# EAGLE library part CP2108 (library Interface)
CP2108 SINGLE-CHIP USB-TO-QUAD-UART BRIDGE. Four independent UART interfaces Integrated clock; no external crystal required ntegrated programmable EEPROM for storing customizable product information On-chip power-on reset circuit On-chip voltage regulator: 3.3 V output Datasheet <http://www.silabs.com/Support%20Documents/TechnicalDocs/CP2108.pdf>
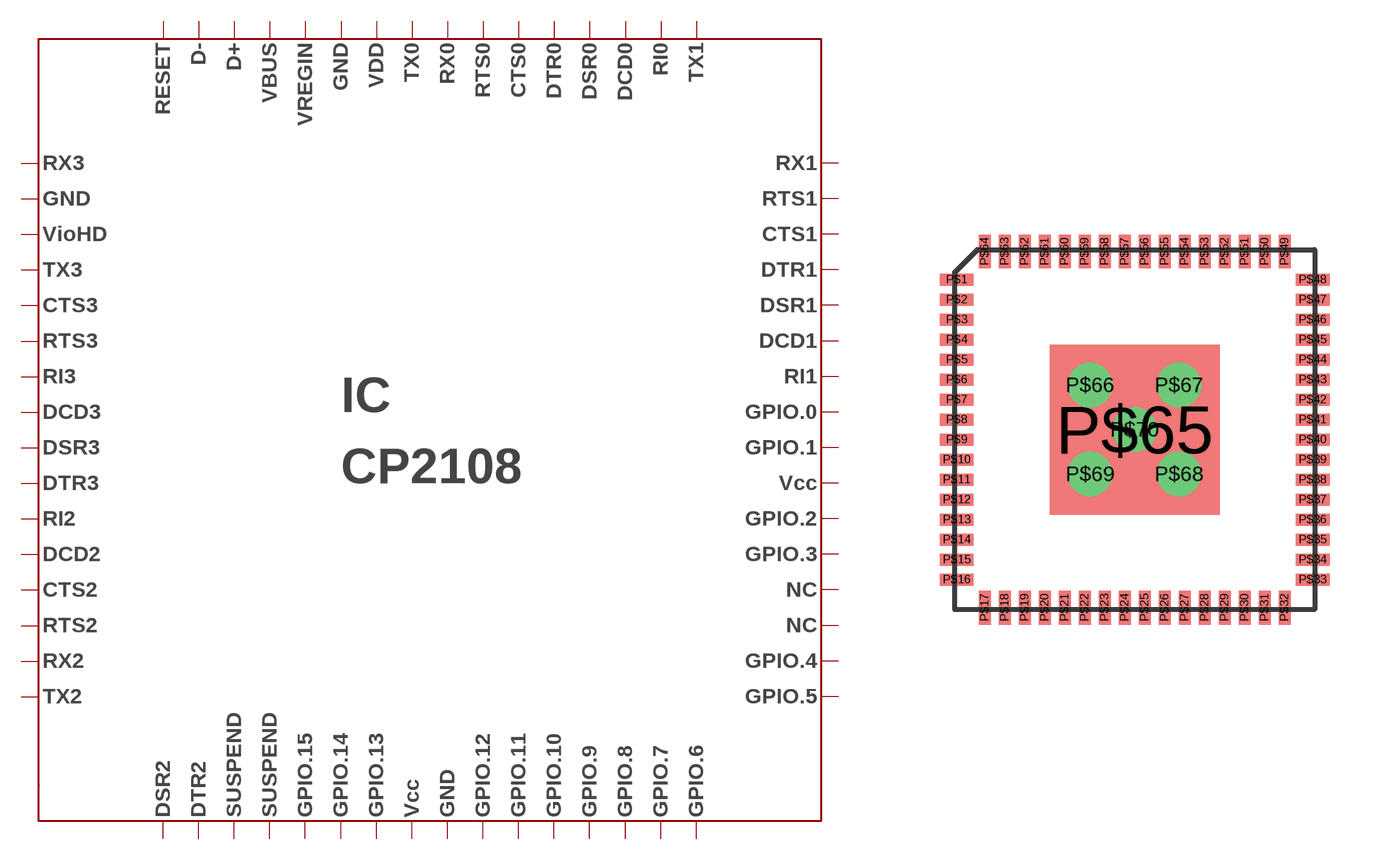
[diagram p8: symbol with the pads of QFN64_9X9; footprint QFN64_9X9]

Designator prefix IC

## CP2108  [QFN64_9X9]
P$1  P$1
P$2  P$2
P$3  P$3
P$4  P$4
P$5  P$5
P$6  P$6
P$7  P$7
P$8  P$8
P$9  P$9
P$10  P$10
P$11  P$11
P$12  P$12
P$13  P$13
P$14  P$14
P$15  P$15
P$16  P$16
P$17  P$17
P$18  P$18
P$19  P$19
P$20  P$20
P$21  P$21
P$22  P$22
P$23  P$23
P$24  P$24
P$25  P$25
P$26  P$26
P$27  P$27
P$28  P$28
P$29  P$29
P$30  P$30
P$31  P$31
P$32  P$32
P$33  P$33
P$34  P$34
P$35  P$35
P$36  P$36
P$37  P$37
P$38  P$38
P$39  P$39
P$40  P$40
P$41  P$41
P$42  P$42
P$43  P$43
P$44  P$44
P$45  P$45
P$46  P$46
P$47  P$47
P$48  P$48
P$49  P$49
P$50  P$50
P$51  P$51
P$52  P$52
P$53  P$53
P$54  P$54
P$55  P$55
P$56  P$56
P$57  P$57
P$58  P$58
P$59  P$59
P$60  P$60
P$61  P$61
P$62  P$62
P$63  P$63
P$64  P$64
P$65  P$2
P$66  P$2
P$67  P$2
P$68  P$2
P$69  P$2
P$70  P$2

## Footprint QFN64_9X9 (pad centres in mm)
smd 0.85 x 0.3: P$1 -4.45,3.75; P$2 -4.45,3.25; P$3 -4.45,2.75; P$4 -4.45,2.25; P$5 -4.45,1.75; P$6 -4.45,1.25; P$7 -4.45,0.75; P$8 -4.45,0.25; P$9 -4.45,-0.25; P$10 -4.45,-0.75; P$11 -4.45,-1.25; P$12 -4.45,-1.75; P$13 -4.45,-2.25; P$14 -4.45,-2.75; P$15 -4.45,-3.25; P$16 -4.45,-3.75; P$33 4.45,-3.75; P$34 4.45,-3.25; P$35 4.45,-2.75; P$36 4.45,-2.25; P$37 4.45,-1.75; P$38 4.45,-1.25; P$39 4.45,-0.75; P$40 4.45,-0.25; P$41 4.45,0.25; P$42 4.45,0.75; P$43 4.45,1.25; P$44 4.45,1.75; P$45 4.45,2.25; P$46 4.45,2.75; P$47 4.45,3.25; P$48 4.45,3.75
smd 0.3 x 0.85: P$17 -3.75,-4.45; P$18 -3.25,-4.45; P$19 -2.75,-4.45; P$20 -2.25,-4.45; P$21 -1.75,-4.45; P$22 -1.25,-4.45; P$23 -0.75,-4.45; P$24 -0.25,-4.45; P$25 0.25,-4.45; P$26 0.75,-4.45; P$27 1.25,-4.45; P$28 1.75,-4.45; P$29 2.25,-4.45; P$30 2.75,-4.45; P$31 3.25,-4.45; P$32 3.75,-4.45; P$49 3.75,4.45; P$50 3.25,4.45; P$51 2.75,4.45; P$52 2.25,4.45; P$53 1.75,4.45; P$54 1.25,4.45; P$55 0.75,4.45; P$56 0.25,4.45; P$57 -0.25,4.45; P$58 -0.75,4.45; P$59 -1.25,4.45; P$60 -1.75,4.45; P$61 -2.25,4.45; P$62 -2.75,4.45; P$63 -3.25,4.45; P$64 -3.75,4.45
smd 4.25 x 4.25: P$65 0,0
drill 0.6: P$66 -1.113,1.113; P$67 1.113,1.113; P$68 1.113,-1.113; P$69 -1.113,-1.113; P$70 0,0